# EAGLE library part AD7998 (library DashAndCAN library)
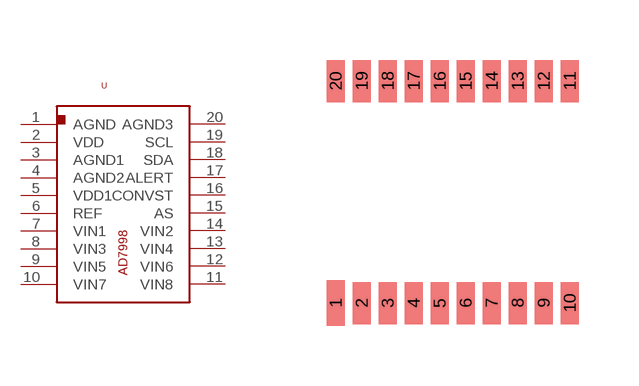
[diagram p2: symbol with the pads of 20TSSOP; footprint 20TSSOP]

Designator prefix -

## AD7998  [20TSSOP]
1  AGND
2  VDD
3  AGND1
4  AGND2
5  VDD1
6  REF
7  VIN1
8  VIN3
9  VIN5
10  VIN7
11  VIN8
12  VIN6
13  VIN4
14  VIN2
15  AS
16  CONVST
17  ALERT
18  SDA
19  SCL
20  AGND3

## Footprint 20TSSOP (pad centres in mm)
smd 0.45 x 1.15: 1 -2.925,-2.775
smd 0.45 x 1.05: 2 -2.275,-2.775; 3 -1.625,-2.775; 4 -0.975,-2.775; 5 -0.325,-2.775; 6 0.325,-2.775; 7 0.975,-2.775; 8 1.625,-2.775; 9 2.275,-2.775; 10 2.925,-2.775; 11 2.925,2.775; 12 2.275,2.775; 13 1.625,2.775; 14 0.975,2.775; 15 0.325,2.775; 16 -0.325,2.775; 17 -0.975,2.775; 18 -1.625,2.775; 19 -2.275,2.775; 20 -2.925,2.775